# Altium footprint library V2PCBLib.PcbLib: 46 footprints (part 2 of 3)
Each footprint in its own frame and in the unit in brackets; x right, y up, seen from the top. Pads: shape width x height; smd on the part's side, far side on the other; paste and mask are expansions set on the pad; w line width, h text height; cw(c..) or ccw(c..) is an arc to the next point about the centre after c.
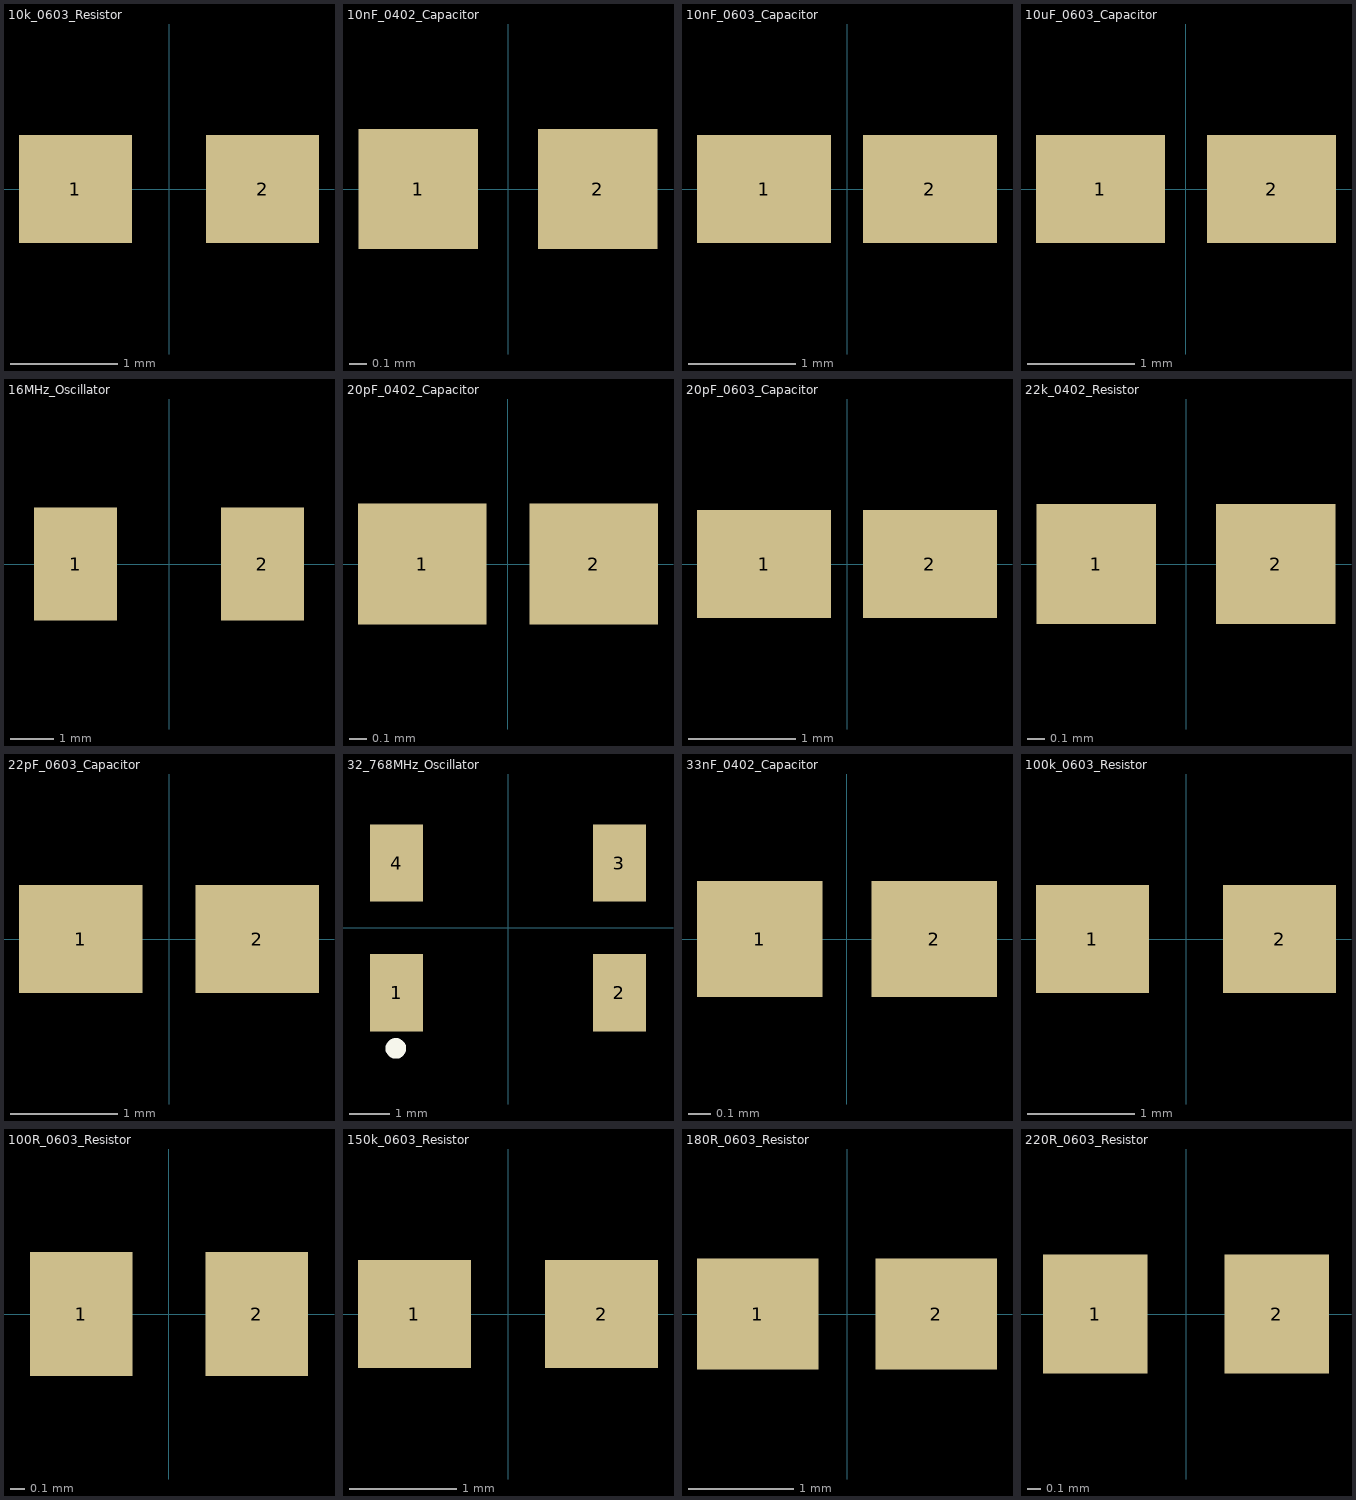
[diagram p1: the footprints below, top view; thin cyan lines are the x and y axes]

## 10k_0603_Resistor [mm]
pads (2):
  rect 1.059x1.012 smd paste+0 mask+0: 1(-0.877,0) 2(0.877,0)
3D body "Res_Yageo_RT0603CRE0724K3L_eec.STEP": height 0.25, standoff 0, extent -1.906,-1.006 1.906,1.006

## 10nF_0402_Capacitor [mm]
pads (2):
  rect 0.668x0.672 smd paste+0 mask+0: 1(-0.502,0) 2(0.502,0)
3D body "Cap_YAGEO_CC0402KRX7R9BB101_eec.STEP": height 0.25, standoff 0, extent -1.036,-0.536 1.036,0.536

## 10nF_0603_Capacitor [mm]
pads (2):
  rect 1.258x1.012 smd paste+0 mask+0: 1(-0.777,0) 2(0.777,0)
3D body "Cap_YAGEO_CC0603KRX7R9BB271_eec.STEP": height 0.25, standoff 0, extent -1.906,-1.006 1.906,1.006

## 10uF_0603_Capacitor [mm]
pads (2):
  rect 1.208x1.012 smd paste+0 mask+0: 1(-0.802,0) 2(0.802,0)
3D body "Cap_Murata_GRM188R60J106KE47D_eec.STEP": height 0.25, standoff 0, extent -1.906,-1.006 1.906,1.006

## 16MHz_Oscillator [mm]
pads (2):
  rect 1.9x2.6 smd paste+0 mask+0: 1(-2.15,0) 2(2.15,0)
3D body "Crys_Abracon_ABM7-16_000MHZ-D2Y-T_eec.STEP": height 0.25, standoff 0, extent -3.2,-1.95 3.2,1.95

## 20pF_0402_Capacitor [mm]
pads (2):
  rect 0.715x0.672 smd paste+0 mask+0: 1(-0.479,0) 2(0.479,0)
3D body "Cap_Murata_GJM1551C1H7R0DB01D_eec.STEP": height 0.25, standoff 0, extent -1.036,-0.536 1.036,0.536

## 20pF_0603_Capacitor [mm]
pads (2):
  rect 1.258x1.012 smd paste+0 mask+0: 1(-0.777,0) 2(0.777,0)
3D body "Cap_Yageo_CC0603JRNPO9BN200_eec.STEP": height 0.25, standoff 0, extent -1.906,-1.006 1.906,1.006

## 22k_0402_Resistor [mm]
pads (2):
  rect 0.668x0.672 smd paste+0 mask+0: 1(-0.502,0) 2(0.502,0)
3D body "Res_Vishay_CRCW04021K00FKED_eec.STEP": height 0.25, standoff 0, extent -1.036,-0.536 1.036,0.536

## 22pF_0603_Capacitor [mm]
pads (2):
  rect 1.159x1.012 smd paste+0 mask+0: 1(-0.827,0) 2(0.827,0)
3D body "Cap_Murata_GCM1885C2A5R3BA16J_eec.STEP": height 0.25, standoff 0, extent -1.906,-1.006 1.906,1.006

## 32_768MHz_Oscillator [mm]
pads (4):
  rect 1.3x1.9 smd paste+0 mask+0: 1(-2.75,-1.6) 2(2.75,-1.6) 3(2.75,1.6) 4(-2.75,1.6)
Top Overlay:
  circle w0.254: c-2.769,-2.972 r0.127
3D body "Crys_Abracon_ABS25-100_000KHZ-T_eec.STEP": height 0.25, standoff 0, extent -4.3,-2.65 4.3,2.65

## 33nF_0402_Capacitor [mm] "Chip Capacitor, 2-Leads, Body 1.00x0.50mm, IPC High Density"
height 0.55
pads (2):
  rect 0.56x0.52 smd mask+0: 1(-0.39,0) 2(0.39,0)
3D body: height 0.55, standoff 0, extent 0.275,-0.275 0.525,0.275
3D body: height 0.55, standoff 0, extent -0.525,-0.275 -0.275,0.275
3D body: height 0.55, standoff 0, extent -0.275,-0.275 0.275,0.275

## 100k_0603_Resistor [mm]
pads (2):
  rect 1.059x1.012 smd paste+0 mask+0: 1(-0.877,0) 2(0.877,0)
3D body "Res_Yageo_AC0603FR-07180RL_eec.STEP": height 0.25, standoff 0, extent -1.906,-1.006 1.906,1.006

## 100R_0603_Resistor [mm] "Chip Resistor, 2-Leads, Body 1.65x0.95mm, IPC High Density"
height 0.5
pads (2):
  rect 0.7x0.85 smd mask+0: 1(-0.6,0) 2(0.6,0)
3D body "RESC1608X05L.step": height 0.5, standoff 0, extent -0.825,-0.475 0.825,0.475

## 150k_0603_Resistor [mm]
pads (2):
  rect 1.059x1.012 smd paste+0 mask+0: 1(-0.877,0) 2(0.877,0)
3D body "Res_Yageo_RC0603FR-073K3L_eec.STEP": height 0.25, standoff 0, extent -1.906,-1.006 1.906,1.006

## 180R_0603_Resistor [mil]
pads (2):
  rect 45.53x41.82 smd paste+0 mask+0: 1(-33.5,0) 2(33.5,0)
3D body "Res_Panasonic_ERJ-3EKF12R0V_eec.STEP": height 10, standoff 0, extent -75.95,-40.59 75.95,40.59

## 220R_0603_Resistor [mm] "Chip Resistor, 2-Leads, Body 1.75x0.95mm, IPC High Density"
height 0.55
pads (2):
  rect 0.75x0.85 smd mask+0: 1(-0.65,0) 2(0.65,0)
3D body "RESC1608X06L.step": height 0.55, standoff 0, extent -0.875,-0.475 0.875,0.475